# EAGLE library part 1-794623-4 (library con-amp1)
MICRO MATE N LOK Dual Row, grid 1.5 mm Source: http://catalog.tycoelectronics.com .. ENG_CD_794623_F.pdf
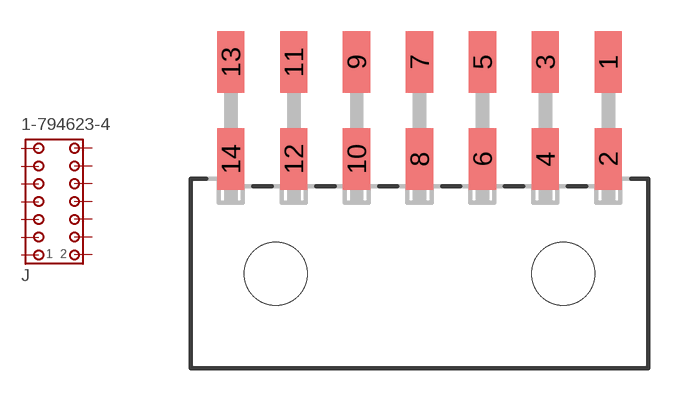
[diagram p150: symbol with the pads of 1-794623-4; footprint 1-794623-4]

Designator prefix J

## 1-794623-4  [1-794623-4]
1  1  pas
2  2  pas
3  3  pas
4  4  pas
5  5  pas
6  6  pas
7  7  pas
8  8  pas
9  9  pas
10  10  pas
11  11  pas
12  12  pas
13  13  pas
14  14  pas

## Footprint 1-794623-4 (pad centres in mm)
MICRO MATE N LOK Dual Row, grid 1.5 mm Source: http://catalog.tycoelectronics.com .. ENG_CD_794623_F.pdf
smd 1.3 x 2.92: 1 9,10.1; 2 9,5.48; 3 6,10.1; 4 6,5.48; 5 3,10.1; 6 3,5.48; 7 0,10.1; 8 0,5.48; 9 -3,10.1; 10 -3,5.48; 11 -6,10.1; 12 -6,5.48; 13 -9,10.1; 14 -9,5.48
hole 3 at -6.85,0
hole 3 at 6.85,0